# Altium footprint library 集成电路.PcbLib: 8 footprints
Each footprint in its own frame and in the unit in brackets; x right, y up, seen from the top. Pads: shape width x height; smd on the part's side, far side on the other; paste and mask are expansions set on the pad; w line width, h text height; cw(c..) or ccw(c..) is an arc to the next point about the centre after c.
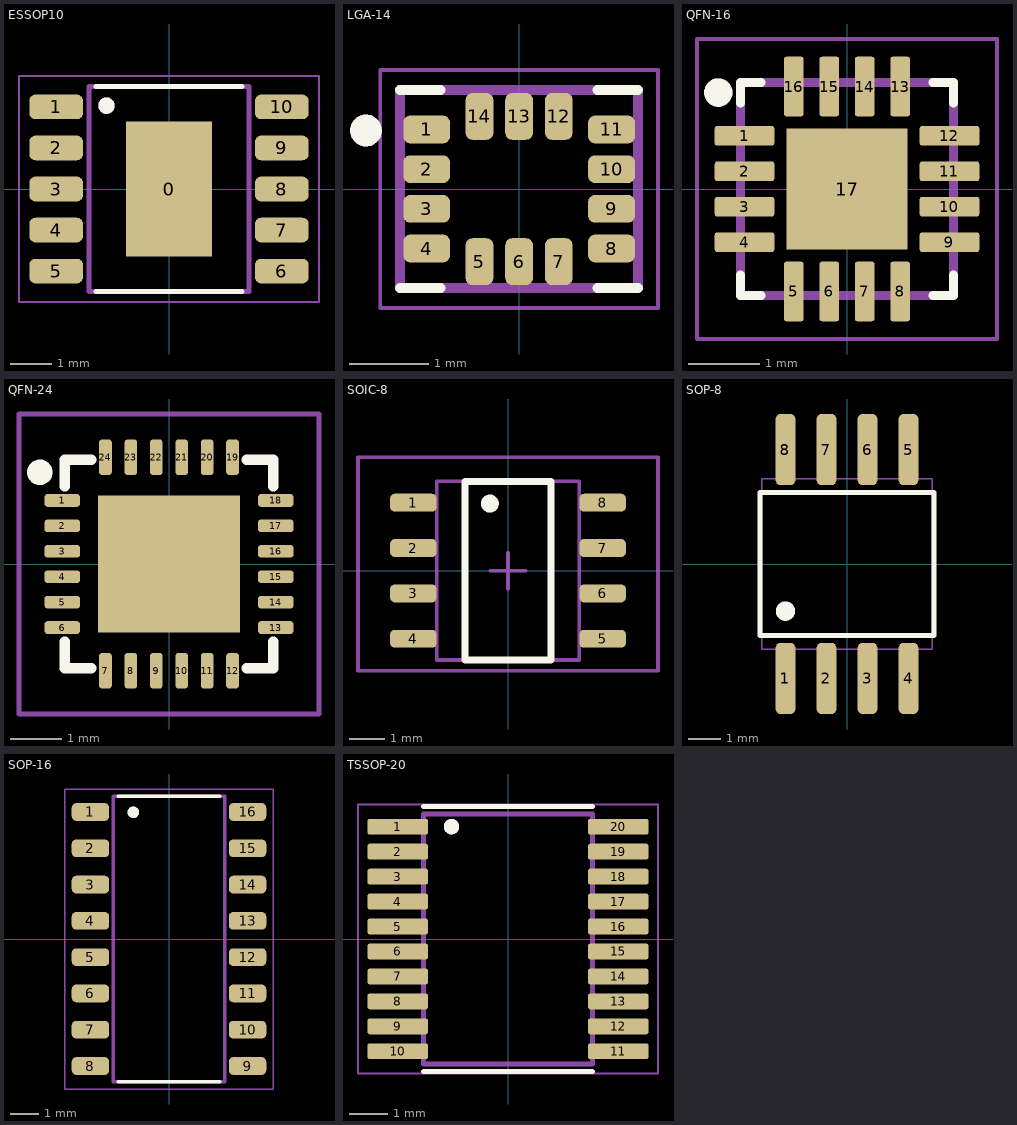
[diagram p0: the footprints below, top view; thin cyan lines are the x and y axes]

## ESSOP10 [mm]
height 1.6
pads (11):
  rect 2.1x3.3 smd paste-3: 0(0,0)
  rrect50% 1.31x0.6 smd: 1(-2.75,2) 2(-2.75,1) 3(-2.75,0) 4(-2.75,-1) 5(-2.75,-2) 6(2.75,-2) 7(2.75,-1) 8(2.75,0) 9(2.75,1) 10(2.75,2)
Top Overlay:
  circle w0.2: c-1.524,2.032 r0.1
  lines w0.127: -1.78,-2.5 1.78,-2.5 ; -1.78,2.5 1.78,2.5
Top Paste:
  region: 0.664,-1.044 -0.664,-1.044 -0.664,1.044 0.664,1.044
Mechanical 13:
  circle w0.2: c-1.524,2.032 r0.1
  lines w0.127: -1.95,-2.5 -1.95,2.5 1.95,2.5 1.95,-2.5 -1.95,-2.5
Mechanical 15:
  lines w0.05: -3.655,-2.75 -3.655,2.75 3.655,2.75 3.655,-2.75 -3.655,-2.75
3D body "step_temp.STEP": height 1.6, standoff 0, extent -3,-2.5 3,2.5

## LGA-14 [mm]
pads (14):
  rrect50% 0.59x0.35 smd mask+0: 1(-1.165,0.75) 2(-1.165,0.25) 3(-1.165,-0.25) 4(-1.165,-0.75) 8(1.165,-0.75) 9(1.165,-0.25) 10(1.165,0.25) 11(1.165,0.75)
  rrect50% 0.35x0.59 smd mask+0: 5(-0.5,-0.915) 6(0,-0.915) 7(0.5,-0.915) 12(0.5,0.915) 13(0,0.915) 14(-0.5,0.915)
Top Overlay:
  circle w0.2: c-1.93,0.737 r0.1
  lines w0.127: -1.5,-1.25 -0.99,-1.25 ; -1.5,1.25 -0.99,1.25 ; 0.99,-1.25 1.5,-1.25 ; 0.99,1.25 1.5,1.25
Top Solder:
  drawing of 14 lines, arcs and shapes, not listed
Mechanical 13:
  circle w0.2: c-1.93,0.737 r0.1
  lines w0.127: -1.5,-1.25 -1.5,1.25 1.5,1.25 1.5,-1.25 -1.5,-1.25
Mechanical 15:
  lines w0.05: -1.75,-1.5 -1.75,1.5 1.75,1.5 1.75,-1.5 -1.75,-1.5
3D body "LGA14_2P5X3X0P91_IVS.step": height 0.97, standoff 0, extent -1.499,-1.245 1.499,1.245

## QFN-16 [mm]
height 0.8
pads (17):
  rrect25% 0.84x0.28 smd: 1(-1.445,0.75) 2(-1.445,0.25) 3(-1.445,-0.25) 4(-1.445,-0.75) 9(1.445,-0.75) 10(1.445,-0.25) 11(1.445,0.25) 12(1.445,0.75)
  rrect25% 0.28x0.84 smd: 5(-0.75,-1.445) 6(-0.25,-1.445) 7(0.25,-1.445) 8(0.75,-1.445) 13(0.75,1.445) 14(0.25,1.445) 15(-0.25,1.445) 16(-0.75,1.445)
  rect 1.7x1.7 smd paste-0.31: 17(0,0)
Top Overlay:
  circle w0.2: c-1.814,1.36 r0.1
  lines w0.127: -1.5,-1.21 -1.5,-1.5 -1.21,-1.5 ; -1.5,1.21 -1.5,1.5 -1.21,1.5 ; 1.21,-1.5 1.5,-1.5 1.5,-1.21 ; 1.21,1.5 1.5,1.5 1.5,1.21
Mechanical 13:
  circle w0.2: c-1.814,1.36 r0.1
  lines w0.127: -1.5,-1.5 1.5,-1.5 1.5,1.5 -1.5,1.5 -1.5,-1.5
Mechanical 15:
  lines w0.05: -2.115,-2.115 2.115,-2.115 2.115,2.115 -2.115,2.115 -2.115,-2.115
3D body "step_temp.STEP": height 0.8, standoff 0, extent -1.25,-1.25 1.25,1.25

## QFN-24 [mm]
height 0.95
pads (25):
  rrect50% 0.7x0.25 smd: 1(-2.1,1.25) 2(-2.1,0.75) 3(-2.1,0.25) 4(-2.1,-0.25) 5(-2.1,-0.75) 6(-2.1,-1.25) 13(2.1,-1.25) 14(2.1,-0.75) 15(2.1,-0.25) 16(2.1,0.25) 17(2.1,0.75) 18(2.1,1.25)
  rrect50% 0.25x0.7 smd: 7(-1.25,-2.1) 8(-0.75,-2.1) 9(-0.25,-2.1) 10(0.25,-2.1) 11(0.75,-2.1) 12(1.25,-2.1) 19(1.25,2.1) 20(0.75,2.1) 21(0.25,2.1) 22(-0.25,2.1) 23(-0.75,2.1) 24(-1.25,2.1)
  rect 2.8x2.7 smd: ""(0,0)
Top Overlay:
  circle w0.25: c-2.54,1.803 r0.125
  lines w0.2: -2.05,-1.525 -2.05,-2.05 -1.525,-2.05 ; -2.05,1.525 -2.05,2.05 -1.525,2.05 ; 1.525,-2.05 2.05,-2.05 2.05,-1.525 ; 1.525,2.05 2.05,2.05 2.05,1.525
Mechanical 15:
  lines w0.1: -0.5,0 0.5,0 ; 0,-0.5 0,0.5 ; -2.95,-2.95 2.95,-2.95 2.95,2.95 -2.95,2.95 -2.95,-2.95
3D body "User Library-mpu-6050_qfn-24.stp": height 0.95, standoff 0.05, extent -2.02,-2.02 2.02,2.02

## SOIC-8 [mm]
height 4.3
pads (8):
  rrect50% 1.3x0.5 smd: 1(-2.65,1.905) 2(-2.65,0.635) 3(-2.65,-0.635) 4(-2.65,-1.905) 5(2.65,-1.905) 6(2.65,-0.635) 7(2.65,0.635) 8(2.65,1.905)
Top Overlay:
  circle w0.25: c-0.508,1.88 r0.125
  lines w0.2: -1.2,-2.5 -1.2,2.5 1.2,2.5 1.2,-2.5 -1.2,-2.5
Mechanical 13:
  lines w0.1: -2,-2.5 -2,2.5 2,2.5 2,-2.5 -2,-2.5
Mechanical 15:
  lines w0.1: -0.5,0 0.5,0 ; 0,-0.5 0,0.5 ; -4.2,-2.8 -4.2,3.175 4.2,3.175 4.2,-2.8 -4.2,-2.8
3D body "SW3DPS-SO-8-DEFAULT.STEP": height 1.45, standoff 0, extent -2.889,-2.439 2.889,2.464

## SOP-8 [mm]
pads (8):
  rrect50% 0.609x2.204 smd: 1(-1.905,-3.542) 2(-0.635,-3.542) 3(0.635,-3.542) 4(1.905,-3.542) 5(1.905,3.542) 6(0.635,3.542) 7(-0.635,3.542) 8(-1.905,3.542)
Top Overlay:
  circle w0.3: c-1.905,-1.459 r0.15
  lines w0.152: -2.691,-2.211 -2.691,2.211 2.691,2.211 2.691,-2.211 -2.691,-2.211
Mechanical 6:
  circle w0.3: c-1.905,-4.35 r0.15
Mechanical 15:
  region: -2.123,-3.95 -2.123,-3.3 -1.687,-3.3 -1.687,-3.95
  region: -2.123,-3.31 -2.123,-2.63 -1.687,-2.63 -1.687,-3.31
  region: -0.853,-3.95 -0.853,-3.3 -0.417,-3.3 -0.417,-3.95
  region: -0.853,-3.31 -0.853,-2.63 -0.417,-2.63 -0.417,-3.31
  region: 0.417,-3.95 0.417,-3.3 0.853,-3.3 0.853,-3.95
  region: 0.417,-3.31 0.417,-2.63 0.853,-2.63 0.853,-3.31
  region: 1.687,-3.95 1.687,-3.3 2.123,-3.3 2.123,-3.95
  region: 1.687,-3.31 1.687,-2.63 2.123,-2.63 2.123,-3.31
  region: -2.123,3.95 -2.123,3.3 -1.687,3.3 -1.687,3.95
  region: -2.123,3.31 -2.123,2.63 -1.687,2.63 -1.687,3.31
  region: -0.853,3.95 -0.853,3.3 -0.417,3.3 -0.417,3.95
  region: -0.853,3.31 -0.853,2.63 -0.417,2.63 -0.417,3.31
  region: 0.417,3.95 0.417,3.3 0.853,3.3 0.853,3.95
  region: 0.417,3.31 0.417,2.63 0.853,2.63 0.853,3.31
  region: 1.687,3.95 1.687,3.3 2.123,3.3 2.123,3.95
  region: 1.687,3.31 1.687,2.63 2.123,2.63 2.123,3.31
  lines w0.051: -2.64,-2.64 -2.64,2.64 2.64,2.64 2.64,-2.64 -2.64,-2.64
3D body "SOP8_208MIL_GDV.step": height 2.16, standoff 0, extent -2.667,-4.051 2.667,4.051

## SOP-16 [mm]
height 1.8
pads (16):
  rrect50% 1.31x0.62 smd: 1(-2.75,4.445) 2(-2.75,3.175) 3(-2.75,1.905) 4(-2.75,0.635) 5(-2.75,-0.635) 6(-2.75,-1.905) 7(-2.75,-3.175) 8(-2.75,-4.445) 9(2.75,-4.445) 10(2.75,-3.175) 11(2.75,-1.905) 12(2.75,-0.635) 13(2.75,0.635) 14(2.75,1.905) 15(2.75,3.175) 16(2.75,4.445)
Top Overlay:
  circle w0.2: c-1.251,4.434 r0.1
  lines w0.127: -1.775,-5 1.775,-5 -1.775,-5 ; -1.775,5 1.775,5 -1.775,5
Mechanical 13:
  circle w0.2: c-1.251,4.434 r0.1
  lines w0.127: -1.95,-5 -1.95,5 1.95,5 1.95,-5 -1.95,-5
Mechanical 15:
  lines w0.05: -3.655,-5.25 3.655,-5.25 3.655,5.25 -3.655,5.25 -3.655,-5.25
3D body "step_temp.STEP": height 1.8, standoff 0, extent -3,-5 3,5

## TSSOP-20 [mm]
pads (20):
  rrect25% 1.57x0.41 smd: 1(-2.87,2.925) 2(-2.87,2.275) 3(-2.87,1.625) 4(-2.87,0.975) 5(-2.87,0.325) 6(-2.87,-0.325) 7(-2.87,-0.975) 8(-2.87,-1.625) 9(-2.87,-2.275) 10(-2.87,-2.925) 11(2.87,-2.925) 12(2.87,-2.275) 13(2.87,-1.625) 14(2.87,-0.975) 15(2.87,-0.325) 16(2.87,0.325) 17(2.87,0.975) 18(2.87,1.625) 19(2.87,2.275) 20(2.87,2.925)
Top Overlay:
  circle w0.2: c-1.472,2.925 r0.1
  lines w0.127: -2.2,-3.45 2.2,-3.45 ; -2.2,3.45 2.2,3.45
Mechanical 13:
  circle w0.2: c-1.472,2.925 r0.1
  lines w0.127: -2.2,-3.25 2.2,-3.25 2.2,3.25 -2.2,3.25 -2.2,-3.25
Mechanical 15:
  lines w0.05: -3.905,-3.5 3.905,-3.5 3.905,3.5 -3.905,3.5 -3.905,-3.5
3D body "PCM5102APWR.STEP": height 1.2, standoff 0, extent -3.2,-3.25 3.2,3.25